# EAGLE library part HEADER/FEM/06-1 (library connectors)
FEMALE HEADER
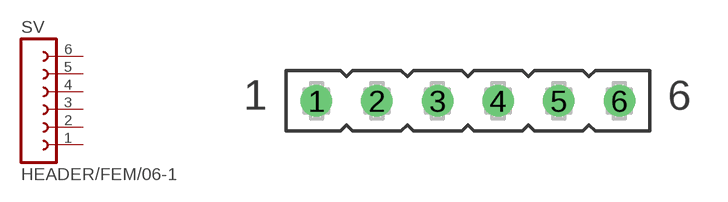
[diagram p0: symbol with the pads of HEADER/FEM/06-1; footprint HEADER/FEM/06-1]

Designator prefix SV

## HEADER/FEM/06-1 (OC_FARNELL: unknown; OC_NEWARK: unknown)  [HEADER/FEM/06-1]
1  1  pas
2  2  pas
3  3  pas
4  4  pas
5  5  pas
6  6  pas

## Footprint HEADER/FEM/06-1 (pad centres in mm)
FEMALE HEADER
drill 0.813: 1 -6.35,0; 2 -3.81,0; 3 -1.27,0; 4 1.27,0; 5 3.81,0; 6 6.35,0